# EAGLE library part *4511 (library digital)
xx4511: BCD-to-7-segment decoder With latch and driver
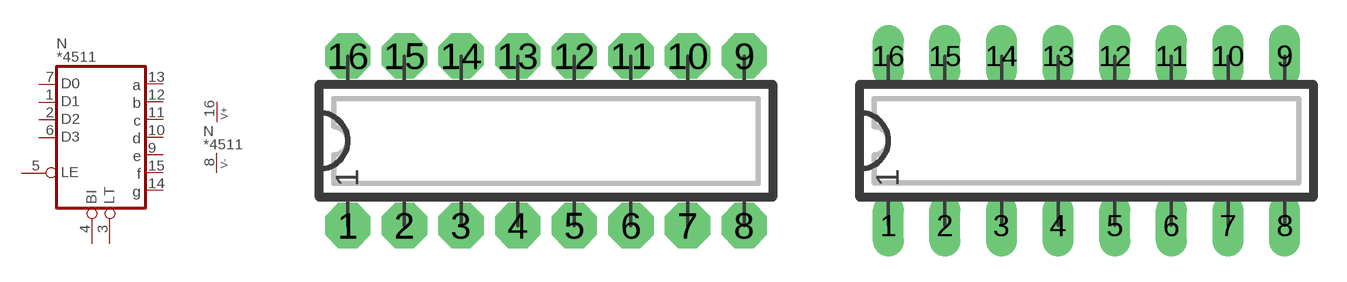
[diagram p1: symbol with the pads of DIP16N; footprints DIP16N, DIP16L]

Designator prefix N; gates  =7SEG_1 P=V+-

## 4511N, 74HC4511N, 74HCT4511N  [DIP16N]
1   :D1  in
2   :D2  in
3   :LT  in
4   :BI  in
5   :LE  in
6   :D3  in
7   :D0  in
8  P:V-  pwr
9   :E  out
10   :D  out
11   :C  out
12   :B  out
13   :A  out
14   :G  out
15   :F  out
16  P:V+  pwr

## 4511, 74HC4511, 74HCT4511  [DIP16L]
Pads as for DIP16N

## 4511L, 74HC4511L, 74HCT4511L  [DIP16L]
Pads as for DIP16N

## 4511R, 74HC4511R, 74HCT4511R  [DIP16R]
Pads as for DIP16N

## 4511S, 74HC4511S, 74HCT4511S  [SO16]
Pads as for DIP16N

## Footprint DIP16N (pad centres in mm)
DIP-16 Standard IC package, 16 pins
drill 0.813 pad 2.032 octagon: 1 0,0; 2 2.54,0; 3 5.08,0; 4 7.62,0; 5 10.16,0; 6 12.7,0; 7 15.24,0; 8 17.78,0; 9 17.78,7.62; 10 15.24,7.62; 11 12.7,7.62; 12 10.16,7.62; 13 7.62,7.62; 14 5.08,7.62; 15 2.54,7.62; 16 0,7.62

## Footprint DIP16L (pad centres in mm)
DIP-16, long pads Standard IC package, 16 pins
drill 0.813 pad 1.397 long: 1 0,0; 2 2.54,0; 3 5.08,0; 4 7.62,0; 5 10.16,0; 6 12.7,0; 7 15.24,0; 8 17.78,0; 9 17.78,7.62; 10 15.24,7.62; 11 12.7,7.62; 12 10.16,7.62; 13 7.62,7.62; 14 5.08,7.62; 15 2.54,7.62; 16 0,7.62

## Footprint DIP16R (pad centres in mm)
DIP-16, reduced pads Standard IC package, 16 pins
drill 0.813 pad 1.397 square: 1 0,0; 2 2.54,0; 3 5.08,0; 4 7.62,0; 5 10.16,0; 6 12.7,0; 7 15.24,0; 8 17.78,0; 9 17.78,7.62; 10 15.24,7.62; 11 12.7,7.62; 12 10.16,7.62; 13 7.62,7.62; 14 5.08,7.62; 15 2.54,7.62; 16 0,7.62

## Footprint SO16 (pad centres in mm)
SO-16, SMD SOIC IC package, 16 pins
smd 0.635 x 1.778: 1 -4.445,-2.857; 2 -3.175,-2.857; 3 -1.905,-2.857; 4 -0.635,-2.857; 5 0.635,-2.857; 6 1.905,-2.857; 7 3.175,-2.857; 8 4.445,-2.857; 9 4.445,2.857; 10 3.175,2.857; 11 1.905,2.857; 12 0.635,2.857; 13 -0.635,2.857; 14 -1.905,2.857; 15 -3.175,2.857; 16 -4.445,2.857